# Altium schematic symbol library 3296W-1-104.SchLib: 1 symbol
Pins are listed as number, name and electrical type; pins without a type are passive.

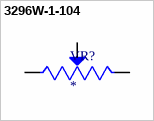
[diagram p0: symbol 3296W-1-104]

## 3296W-1-104
designator VR?
±10% 100kΩ Plugin Variable Resistors/Potentiometers ROHS; Mfr.Part #: 3296W-1-104; Manufacturer: BOCHEN(Chengdu Guosheng Tech); Package: Plugin; LCSC Part#: C330435; Value: 100kΩ; Packaging: Bag-packed; Datasheet: https://datasheet.lcsc.com/lcsc/1912111437_BOCHEN-Chengdu-Guosheng-Tech-3296W-1-104_C330435.pdf
footprint 3296W-1-104
pins: 1 CCW, 2 WIPER, 3 CW